# Altium integrated library SomLabs-SL-6UL-ULL-01-2018.intlib: 2 symbols
Pins are listed as number, name and electrical type; pins without a type are passive.

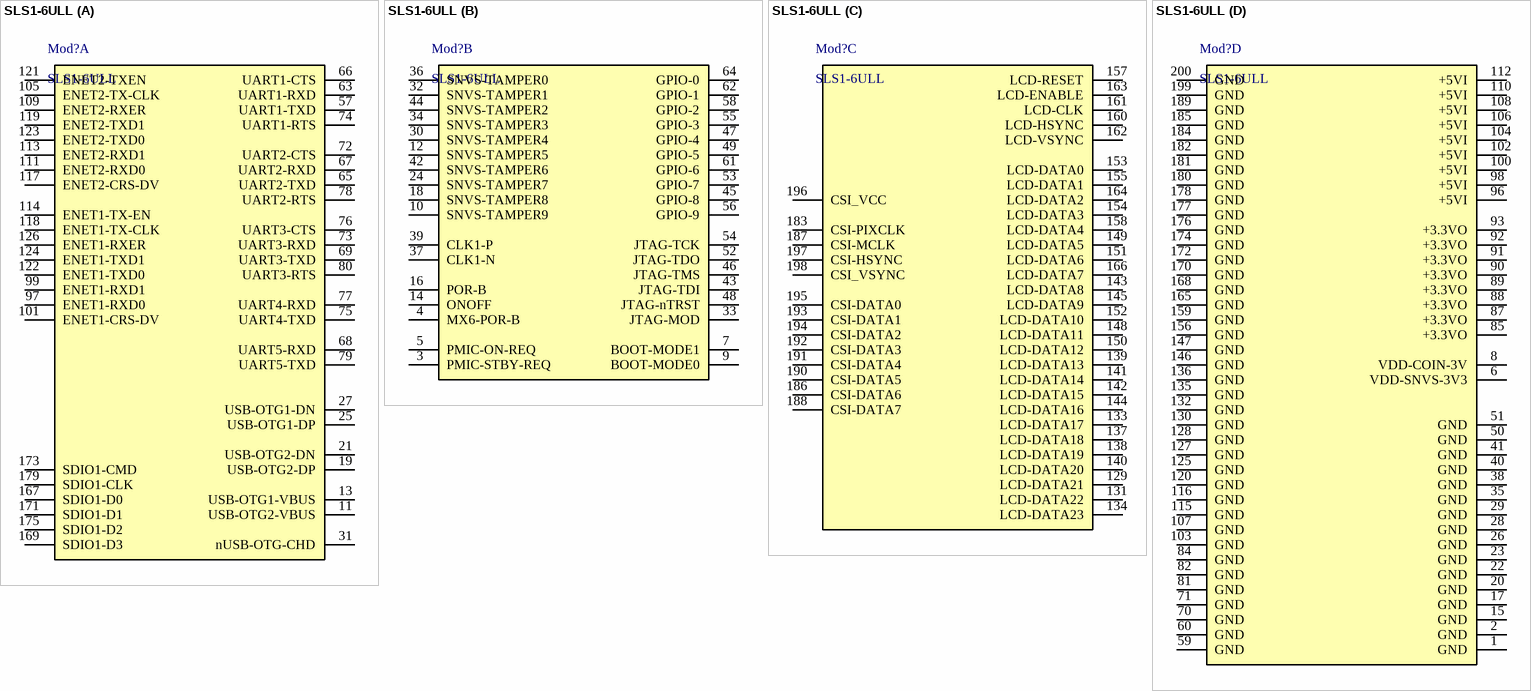
[diagram p0: symbol SLS1-6ULL]

## SLS1-6ULL
designator Mod?
VisionSOMLabs SL-6UL i.MX6UL/ULL; Manufacturer: SomLabs; Supplier: SomLabs
footprint J/SODIMM200/TE/1473005-4
part A pins: 11 USB-OTG2-VBUS, 13 USB-OTG1-VBUS, 19 USB-OTG2-DP, 21 USB-OTG2-DN, 25 USB-OTG1-DP, 27 USB-OTG1-DN, 31 nUSB-OTG-CHD, 57 UART1-TXD, 63 UART1-RXD, 65 UART2-TXD, 66 UART1-CTS, 67 UART2-RXD, 68 UART5-RXD, 69 UART3-TXD, 72 UART2-CTS, 73 UART3-RXD, 74 UART1-RTS, 75 UART4-TXD, 76 UART3-CTS, 77 UART4-RXD, 78 UART2-RTS, 79 UART5-TXD, 80 UART3-RTS, 97 ENET1-RXD0, 99 ENET1-RXD1, 101 ENET1-CRS-DV, 105 ENET2-TX-CLK, 109 ENET2-RXER, 111 ENET2-RXD0, 113 ENET2-RXD1, 114 ENET1-TX-EN, 117 ENET2-CRS-DV, 118 ENET1-TX-CLK, 119 ENET2-TXD1, 121 ENET2-TXEN, 122 ENET1-TXD0, 123 ENET2-TXD0, 124 ENET1-TXD1, 126 ENET1-RXER, 167 SDIO1-D0, 169 SDIO1-D3, 171 SDIO1-D1, 173 SDIO1-CMD, 175 SDIO1-D2, 179 SDIO1-CLK
part B pins: 3 PMIC-STBY-REQ, 4 MX6-POR-B, 5 PMIC-ON-REQ, 7 BOOT-MODE1, 9 BOOT-MODE0, 10 SNVS-TAMPER9, 12 SNVS-TAMPER5, 14 ONOFF, 16 POR-B, 18 SNVS-TAMPER8, 24 SNVS-TAMPER7, 30 SNVS-TAMPER4, 32 SNVS-TAMPER1, 33 JTAG-MOD, 34 SNVS-TAMPER3, 36 SNVS-TAMPER0, 37 CLK1-N, 39 CLK1-P, 42 SNVS-TAMPER6, 43 JTAG-TDI, 44 SNVS-TAMPER2, 45 GPIO-8, 46 JTAG-TMS, 47 GPIO-4, 48 JTAG-nTRST, 49 GPIO-5, 52 JTAG-TDO, 53 GPIO-7, 54 JTAG-TCK, 55 GPIO-3, 56 GPIO-9, 58 GPIO-2, 61 GPIO-6, 62 GPIO-1, 64 GPIO-0
part C pins: 129 LCD-DATA21, 131 LCD-DATA22, 133 LCD-DATA17, 134 LCD-DATA23, 137 LCD-DATA18, 138 LCD-DATA19, 139 LCD-DATA13, 140 LCD-DATA20, 141 LCD-DATA14, 142 LCD-DATA15, 143 LCD-DATA8, 144 LCD-DATA16, 145 LCD-DATA9, 148 LCD-DATA11, 149 LCD-DATA5, 150 LCD-DATA12, 151 LCD-DATA6, 152 LCD-DATA10, 153 LCD-DATA0, 154 LCD-DATA3, 155 LCD-DATA1, 157 LCD-RESET, 158 LCD-DATA4, 160 LCD-HSYNC, 161 LCD-CLK, 162 LCD-VSYNC, 163 LCD-ENABLE, 164 LCD-DATA2, 166 LCD-DATA7, 183 CSI-PIXCLK, 186 CSI-DATA6, 187 CSI-MCLK, 188 CSI-DATA7, 190 CSI-DATA5, 191 CSI-DATA4, 192 CSI-DATA3, 193 CSI-DATA1, 194 CSI-DATA2, 195 CSI-DATA0, 196 CSI_VCC, 197 CSI-HSYNC, 198 CSI_VSYNC
part D pins: 1 GND, 2 GND, 6 VDD-SNVS-3V3, 8 VDD-COIN-3V, 15 GND, 17 GND, 20 GND, 22 GND, 23 GND, 26 GND, 28 GND, 29 GND, 35 GND, 38 GND, 40 GND, 41 GND, 50 GND, 51 GND, 59 GND, 60 GND, 70 GND, 71 GND, 81 GND, 82 GND, 84 GND, 85 +3.3VO, 87 +3.3VO, 88 +3.3VO, 89 +3.3VO, 90 +3.3VO, 91 +3.3VO, 92 +3.3VO, 93 +3.3VO, 96 +5VI, 98 +5VI, 100 +5VI, 102 +5VI, 103 GND, 104 +5VI, 106 +5VI, 107 GND, 108 +5VI, 110 +5VI, 112 +5VI, 115 GND, 116 GND, 120 GND, 125 GND, 127 GND, 128 GND, 130 GND, 132 GND, 135 GND, 136 GND, 146 GND, 147 GND, 156 GND, 159 GND, 165 GND, 168 GND, 170 GND, 172 GND, 174 GND, 176 GND, 177 GND, 178 GND, 180 GND, 181 GND, 182 GND, 184 GND, 185 GND, 189 GND, 199 GND, 200 GND

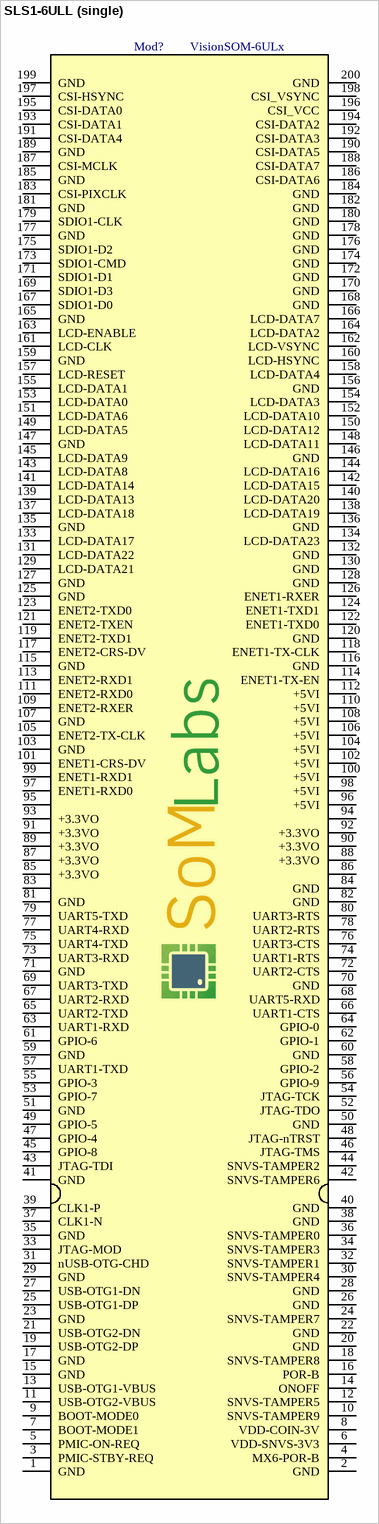
[diagram p1: symbol SLS1-6ULL (single)]

## SLS1-6ULL (single)
designator Mod?, comment VisionSOM-6ULx
VisionSOMLabs SL-6UL i.MX6UL/ULL; Manufacturer: SomLabs; Supplier: SomLabs
footprint J/SODIMM200/TE/1473005-4
pins: 1 GND, 2 GND, 3 PMIC-STBY-REQ, 4 MX6-POR-B, 5 PMIC-ON-REQ, 6 VDD-SNVS-3V3, 7 BOOT-MODE1, 8 VDD-COIN-3V, 9 BOOT-MODE0, 10 SNVS-TAMPER9, 11 USB-OTG2-VBUS, 12 SNVS-TAMPER5, 13 USB-OTG1-VBUS, 14 ONOFF, 15 GND, 16 POR-B, 17 GND, 18 SNVS-TAMPER8, 19 USB-OTG2-DP, 20 GND, 21 USB-OTG2-DN, 22 GND, 23 GND, 24 SNVS-TAMPER7, 25 USB-OTG1-DP, 26 GND, 27 USB-OTG1-DN, 28 GND, 29 GND, 30 SNVS-TAMPER4, 31 nUSB-OTG-CHD, 32 SNVS-TAMPER1, 33 JTAG-MOD, 34 SNVS-TAMPER3, 35 GND, 36 SNVS-TAMPER0, 37 CLK1-N, 38 GND, 39 CLK1-P, 40 GND, 41 GND, 42 SNVS-TAMPER6, 43 JTAG-TDI, 44 SNVS-TAMPER2, 45 GPIO-8, 46 JTAG-TMS, 47 GPIO-4, 48 JTAG-nTRST, 49 GPIO-5, 50 GND, 51 GND, 52 JTAG-TDO, 53 GPIO-7, 54 JTAG-TCK, 55 GPIO-3, 56 GPIO-9, 57 UART1-TXD, 58 GPIO-2, 59 GND, 60 GND, 61 GPIO-6, 62 GPIO-1, 63 UART1-RXD, 64 GPIO-0, 65 UART2-TXD, 66 UART1-CTS, 67 UART2-RXD, 68 UART5-RXD, 69 UART3-TXD, 70 GND, 71 GND, 72 UART2-CTS, 73 UART3-RXD, 74 UART1-RTS, 75 UART4-TXD, 76 UART3-CTS, 77 UART4-RXD, 78 UART2-RTS, 79 UART5-TXD, 80 UART3-RTS, 81 GND, 82 GND, 83, 84 GND, 85 +3.3VO, 86, 87 +3.3VO, 88 +3.3VO, 89 +3.3VO, 90 +3.3VO, 91 +3.3VO, 92 +3.3VO, 93 +3.3VO, 94, 95, 96 +5VI, 97 ENET1-RXD0, 98 +5VI, 99 ENET1-RXD1, 100 +5VI, 101 ENET1-CRS-DV, 102 +5VI, 103 GND, 104 +5VI, 105 ENET2-TX-CLK, 106 +5VI, 107 GND, 108 +5VI, 109 ENET2-RXER, 110 +5VI, 111 ENET2-RXD0, 112 +5VI, 113 ENET2-RXD1, 114 ENET1-TX-EN, 115 GND, 116 GND, 117 ENET2-CRS-DV, 118 ENET1-TX-CLK, 119 ENET2-TXD1, 120 GND, 121 ENET2-TXEN, 122 ENET1-TXD0, 123 ENET2-TXD0, 124 ENET1-TXD1, 125 GND, 126 ENET1-RXER, 127 GND, 128 GND, 129 LCD-DATA21, 130 GND, 131 LCD-DATA22, 132 GND, 133 LCD-DATA17, 134 LCD-DATA23, 135 GND, 136 GND, 137 LCD-DATA18, 138 LCD-DATA19, 139 LCD-DATA13, 140 LCD-DATA20, 141 LCD-DATA14, 142 LCD-DATA15, 143 LCD-DATA8, 144 LCD-DATA16, 145 LCD-DATA9, 146 GND, 147 GND, 148 LCD-DATA11, 149 LCD-DATA5, 150 LCD-DATA12, 151 LCD-DATA6, 152 LCD-DATA10, 153 LCD-DATA0, 154 LCD-DATA3, 155 LCD-DATA1, 156 GND, 157 LCD-RESET, 158 LCD-DATA4, 159 GND, 160 LCD-HSYNC, 161 LCD-CLK, 162 LCD-VSYNC, 163 LCD-ENABLE, 164 LCD-DATA2, 165 GND, 166 LCD-DATA7, 167 SDIO1-D0, 168 GND, 169 SDIO1-D3, 170 GND, 171 SDIO1-D1, 172 GND, 173 SDIO1-CMD, 174 GND, 175 SDIO1-D2, 176 GND, 177 GND, 178 GND, 179 SDIO1-CLK, 180 GND, 181 GND, 182 GND, 183 CSI-PIXCLK, 184 GND, 185 GND, 186 CSI-DATA6, 187 CSI-MCLK, 188 CSI-DATA7, 189 GND, 190 CSI-DATA5, 191 CSI-DATA4, 192 CSI-DATA3, 193 CSI-DATA1, 194 CSI-DATA2, 195 CSI-DATA0, 196 CSI_VCC, 197 CSI-HSYNC, 198 CSI_VSYNC, 199 GND, 200 GND